# Altium schematic symbol library TMP05BRTZ.SchLib: 1 symbol
Pins are listed as number, name and electrical type; pins without a type are passive.

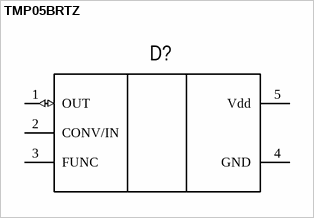
[diagram p0: symbol TMP05BRTZ]

## TMP05BRTZ
designator D?  (value not drawn)
pins: 1 OUT (io), 2 CONV/IN, 3 FUNC, 4 GND (power), 5 Vdd (power)